# Altium footprint library 7807.PcbLib: 1 footprints
Each footprint in its own frame and in the unit in brackets; x right, y up, seen from the top. Pads: shape width x height; smd on the part's side, far side on the other; paste and mask are expansions set on the pad; w line width, h text height; cw(c..) or ccw(c..) is an arc to the next point about the centre after c.
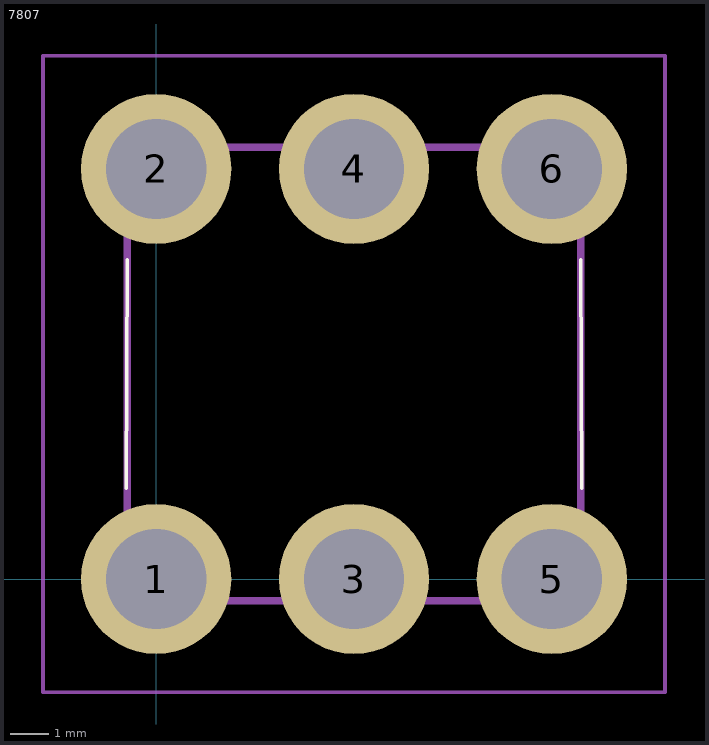
[diagram p0: the footprint, top view; thin cyan lines are the x and y axes]

## 7807 [mm]
pads (6):
  round 3.96 hole 2.64: 1(0,0) 2(0,10.8) 3(5.21,0) 4(5.21,10.8) 5(10.42,0) 6(10.42,10.8)
Top Overlay:
  lines w0.1: -0.79,2.4 -0.76,8.4 ; 11.18,8.4 11.21,2.4
Mechanical 15:
  lines w0.2: -0.76,-0.57 11.18,-0.57 11.18,11.37 -0.76,11.37 -0.76,-0.57
Mechanical 20:
  lines w0.1: -2.98,-2.98 13.4,-2.98 13.4,13.78 -2.98,13.78 -2.98,-2.98